# Altium schematic symbol library OPA388IDGKR.SchLib: 1 symbol
Pins are listed as number, name and electrical type; pins without a type are passive.

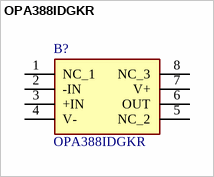
[diagram p0: symbol OPA388IDGKR]

## OPA388IDGKR
designator B?
10MHz, CMOS, Zero-Drift, Zero-Crossover, True RRIO Precision Operational Amplifier; Manufacturer_Name: Texas Instruments; Geometry.Height: 1.1mm; Mouser Part Number: 595-OPA388IDGKR; Mouser Price/Stock: https://www.mouser.co.uk/ProductDetail/Texas-Instruments/OPA388IDGKR?qs=HXFqYaX1Q2zq4dYzVXACyQ%3D%3D; Manufacturer_Part_Number: OPA388IDGKR; Datasheet Link: http://www.ti.com/lit/gpn/opa388
footprint SOP65P490X110-8N
pins: 1 NC_1, 2 -IN, 3 +IN, 4 V-, 5 NC_2, 6 OUT, 7 V+, 8 NC_3